# EAGLE library part RC1740HP (library Messstation)
RC1740HC Radiocrafts
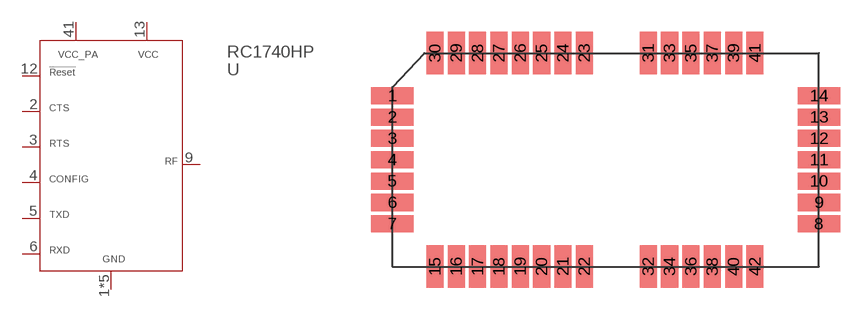
[diagram p0: symbol with the pads of RADIOCRAFTS_MODULE; footprint RADIOCRAFTS_MODULE]

Designator prefix U

## RC1740HP  [RADIOCRAFTS_MODULE]
1  GND
2  CTS
3  RTS
4  CONFIG
5  TXD
6  RXD
7  GND
8  GND
9  RF
10  GND
12  !RESET!
13  VCC
14  GND
41  VCC_PA

## Footprint RADIOCRAFTS_MODULE (pad centres in mm)
Radiocraft Module Footprint
smd 2.54 x 1.016: 1 -12.7,10.16; 2 -12.7,8.89; 3 -12.7,7.62; 4 -12.7,6.35; 5 -12.7,5.08; 6 -12.7,3.81; 7 -12.7,2.54; 8 12.7,2.54; 9 12.7,3.81; 10 12.7,5.08; 11 12.7,6.35; 12 12.7,7.62; 13 12.7,8.89; 14 12.7,10.16
smd 1.016 x 2.54: 15 -10.16,0; 16 -8.89,0; 17 -7.62,0; 18 -6.35,0; 19 -5.08,0; 20 -3.81,0; 21 -2.54,0; 22 -1.27,0; 23 -1.27,12.7; 24 -2.54,12.7; 25 -3.81,12.7; 26 -5.08,12.7; 27 -6.35,12.7; 28 -7.62,12.7; 29 -8.89,12.7; 30 -10.16,12.7; 31 2.54,12.7; 32 2.54,0; 33 3.81,12.7; 34 3.81,0; 35 5.08,12.7; 36 5.08,0; 37 6.35,12.7; 38 6.35,0; 39 7.62,12.7; 40 7.62,0; 41 8.89,12.7; 42 8.89,0